# Altium footprint library MiscPower.PcbLib: 174 footprints (part 10 of 12)
Each footprint in its own frame and in the unit in brackets; x right, y up, seen from the top. Pads: shape width x height; smd on the part's side, far side on the other; paste and mask are expansions set on the pad; w line width, h text height; cw(c..) or ccw(c..) is an arc to the next point about the centre after c.
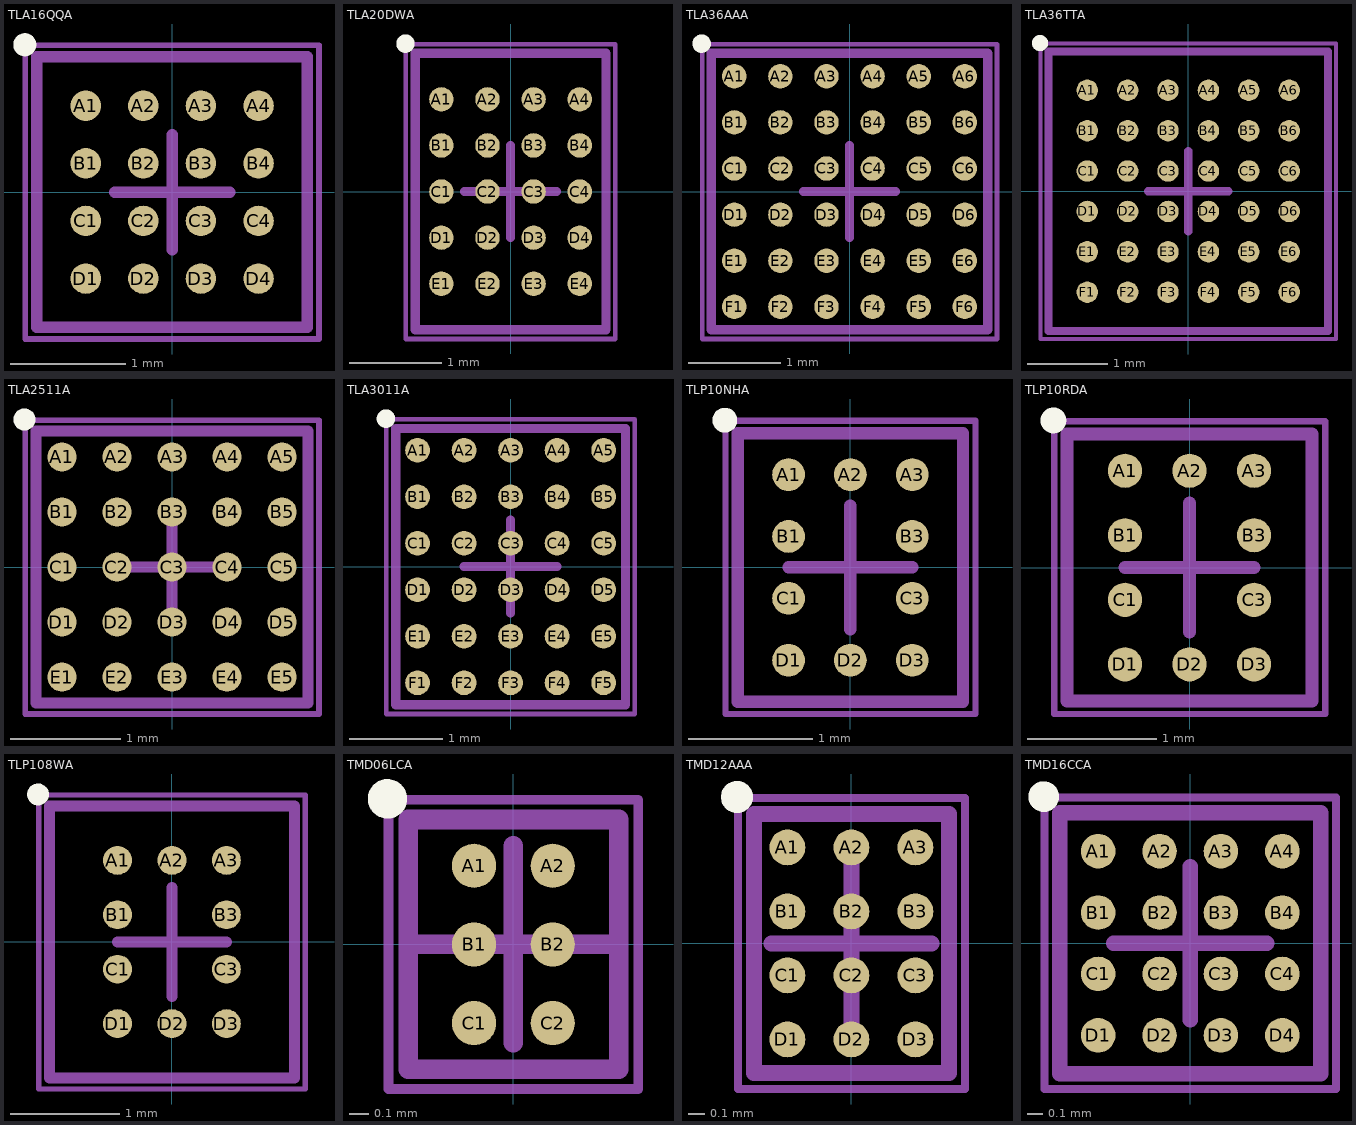
[diagram p9: the footprints below, top view; thin cyan lines are the x and y axes]

## TLA16QQA [mm] "Micro SMD, 16-Leads, Body 2.35x2.35mm, Pitch 0.5mm, NSC Recommended"
height 0.68
pads (16):
  round 0.265 smd paste-0.132 mask+0.05: A1(-0.75,0.75) A2(-0.25,0.75) A3(0.25,0.75) A4(0.75,0.75) B1(-0.75,0.25) B2(-0.25,0.25) B3(0.25,0.25) B4(0.75,0.25) C1(-0.75,-0.25) C2(-0.25,-0.25) C3(0.25,-0.25) C4(0.75,-0.25) D1(-0.75,-0.75) D2(-0.25,-0.75) D3(0.25,-0.75) D4(0.75,-0.75)
Top Overlay:
  circle w0.1: c-1.28,1.28 r0.05
Top Paste:
  circle w0.05: c-0.825,0.675 r0.025
  circle w0.05: c-0.675,0.825 r0.025
  circle w0.05: c-0.675,0.675 r0.025
  circle w0.05: c-0.825,0.825 r0.025
  circle w0.05: c-0.325,0.675 r0.025
  circle w0.05: c-0.175,0.825 r0.025
  circle w0.05: c-0.175,0.675 r0.025
  circle w0.05: c-0.325,0.825 r0.025
  circle w0.05: c0.175,0.675 r0.025
  circle w0.05: c0.325,0.825 r0.025
  circle w0.05: c0.325,0.675 r0.025
  circle w0.05: c0.175,0.825 r0.025
  circle w0.05: c0.675,0.675 r0.025
  circle w0.05: c0.825,0.825 r0.025
  circle w0.05: c0.825,0.675 r0.025
  circle w0.05: c0.675,0.825 r0.025
  circle w0.05: c-0.825,0.175 r0.025
  circle w0.05: c-0.675,0.325 r0.025
  circle w0.05: c-0.675,0.175 r0.025
  circle w0.05: c-0.825,0.325 r0.025
  circle w0.05: c-0.325,0.175 r0.025
  circle w0.05: c-0.175,0.325 r0.025
  circle w0.05: c-0.175,0.175 r0.025
  circle w0.05: c-0.325,0.325 r0.025
  circle w0.05: c0.175,0.175 r0.025
  circle w0.05: c0.325,0.325 r0.025
  circle w0.05: c0.325,0.175 r0.025
  circle w0.05: c0.175,0.325 r0.025
  circle w0.05: c0.675,0.175 r0.025
  circle w0.05: c0.825,0.325 r0.025
  circle w0.05: c0.825,0.175 r0.025
  circle w0.05: c0.675,0.325 r0.025
  circle w0.05: c-0.825,-0.325 r0.025
  circle w0.05: c-0.675,-0.175 r0.025
  circle w0.05: c-0.675,-0.325 r0.025
  circle w0.05: c-0.825,-0.175 r0.025
  circle w0.05: c-0.325,-0.325 r0.025
  circle w0.05: c-0.175,-0.175 r0.025
  circle w0.05: c-0.175,-0.325 r0.025
  circle w0.05: c-0.325,-0.175 r0.025
  circle w0.05: c0.175,-0.325 r0.025
  circle w0.05: c0.325,-0.175 r0.025
  circle w0.05: c0.325,-0.325 r0.025
  circle w0.05: c0.175,-0.175 r0.025
  circle w0.05: c0.675,-0.325 r0.025
  circle w0.05: c0.825,-0.175 r0.025
  circle w0.05: c0.825,-0.325 r0.025
  circle w0.05: c0.675,-0.175 r0.025
  circle w0.05: c-0.825,-0.825 r0.025
  circle w0.05: c-0.675,-0.675 r0.025
  circle w0.05: c-0.675,-0.825 r0.025
  circle w0.05: c-0.825,-0.675 r0.025
  circle w0.05: c-0.325,-0.825 r0.025
  circle w0.05: c-0.175,-0.675 r0.025
  circle w0.05: c-0.175,-0.825 r0.025
  circle w0.05: c-0.325,-0.675 r0.025
  circle w0.05: c0.175,-0.825 r0.025
  circle w0.05: c0.325,-0.675 r0.025
  circle w0.05: c0.325,-0.825 r0.025
  circle w0.05: c0.175,-0.675 r0.025
  circle w0.05: c0.675,-0.825 r0.025
  circle w0.05: c0.825,-0.675 r0.025
  circle w0.05: c0.825,-0.825 r0.025
  circle w0.05: c0.675,-0.675 r0.025
  region: -0.825,0.825 -0.825,0.675 -0.675,0.675 -0.675,0.825
  region: -0.825,0.675 -0.825,0.825 -0.875,0.825 -0.875,0.675
  rectangle: -0.825,0.825 -0.675,0.875
  region: -0.675,0.825 -0.675,0.675 -0.625,0.675 -0.625,0.825
  region: -0.675,0.675 -0.825,0.675 -0.825,0.625 -0.675,0.625
  region: -0.325,0.825 -0.325,0.675 -0.175,0.675 -0.175,0.825
  region: -0.325,0.675 -0.325,0.825 -0.375,0.825 -0.375,0.675
  rectangle: -0.325,0.825 -0.175,0.875
  region: -0.175,0.825 -0.175,0.675 -0.125,0.675 -0.125,0.825
  region: -0.175,0.675 -0.325,0.675 -0.325,0.625 -0.175,0.625
  region: 0.175,0.825 0.175,0.675 0.325,0.675 0.325,0.825
  region: 0.175,0.675 0.175,0.825 0.125,0.825 0.125,0.675
  rectangle: 0.175,0.825 0.325,0.875
  region: 0.325,0.825 0.325,0.675 0.375,0.675 0.375,0.825
  region: 0.325,0.675 0.175,0.675 0.175,0.625 0.325,0.625
  region: 0.675,0.825 0.675,0.675 0.825,0.675 0.825,0.825
  region: 0.675,0.675 0.675,0.825 0.625,0.825 0.625,0.675
  rectangle: 0.675,0.825 0.825,0.875
  region: 0.825,0.825 0.825,0.675 0.875,0.675 0.875,0.825
  region: 0.825,0.675 0.675,0.675 0.675,0.625 0.825,0.625
  region: -0.825,0.325 -0.825,0.175 -0.675,0.175 -0.675,0.325
  region: -0.825,0.175 -0.825,0.325 -0.875,0.325 -0.875,0.175
  rectangle: -0.825,0.325 -0.675,0.375
  region: -0.675,0.325 -0.675,0.175 -0.625,0.175 -0.625,0.325
  region: -0.675,0.175 -0.825,0.175 -0.825,0.125 -0.675,0.125
  region: -0.325,0.325 -0.325,0.175 -0.175,0.175 -0.175,0.325
  region: -0.325,0.175 -0.325,0.325 -0.375,0.325 -0.375,0.175
  rectangle: -0.325,0.325 -0.175,0.375
  region: -0.175,0.325 -0.175,0.175 -0.125,0.175 -0.125,0.325
  region: -0.175,0.175 -0.325,0.175 -0.325,0.125 -0.175,0.125
  region: 0.175,0.325 0.175,0.175 0.325,0.175 0.325,0.325
  region: 0.175,0.175 0.175,0.325 0.125,0.325 0.125,0.175
  rectangle: 0.175,0.325 0.325,0.375
  region: 0.325,0.325 0.325,0.175 0.375,0.175 0.375,0.325
  region: 0.325,0.175 0.175,0.175 0.175,0.125 0.325,0.125
  region: 0.675,0.325 0.675,0.175 0.825,0.175 0.825,0.325
  region: 0.675,0.175 0.675,0.325 0.625,0.325 0.625,0.175
  rectangle: 0.675,0.325 0.825,0.375
  region: 0.825,0.325 0.825,0.175 0.875,0.175 0.875,0.325
  region: 0.825,0.175 0.675,0.175 0.675,0.125 0.825,0.125
  region: -0.825,-0.175 -0.825,-0.325 -0.675,-0.325 -0.675,-0.175
  region: -0.825,-0.325 -0.825,-0.175 -0.875,-0.175 -0.875,-0.325
  rectangle: -0.825,-0.175 -0.675,-0.125
  region: -0.675,-0.175 -0.675,-0.325 -0.625,-0.325 -0.625,-0.175
  region: -0.675,-0.325 -0.825,-0.325 -0.825,-0.375 -0.675,-0.375
  region: -0.325,-0.175 -0.325,-0.325 -0.175,-0.325 -0.175,-0.175
  region: -0.325,-0.325 -0.325,-0.175 -0.375,-0.175 -0.375,-0.325
  rectangle: -0.325,-0.175 -0.175,-0.125
  region: -0.175,-0.175 -0.175,-0.325 -0.125,-0.325 -0.125,-0.175
  region: -0.175,-0.325 -0.325,-0.325 -0.325,-0.375 -0.175,-0.375
  region: 0.175,-0.175 0.175,-0.325 0.325,-0.325 0.325,-0.175
  region: 0.175,-0.325 0.175,-0.175 0.125,-0.175 0.125,-0.325
  rectangle: 0.175,-0.175 0.325,-0.125
  region: 0.325,-0.175 0.325,-0.325 0.375,-0.325 0.375,-0.175
  region: 0.325,-0.325 0.175,-0.325 0.175,-0.375 0.325,-0.375
  region: 0.675,-0.175 0.675,-0.325 0.825,-0.325 0.825,-0.175
  region: 0.675,-0.325 0.675,-0.175 0.625,-0.175 0.625,-0.325
  rectangle: 0.675,-0.175 0.825,-0.125
  region: 0.825,-0.175 0.825,-0.325 0.875,-0.325 0.875,-0.175
  region: 0.825,-0.325 0.675,-0.325 0.675,-0.375 0.825,-0.375
  region: -0.825,-0.675 -0.825,-0.825 -0.675,-0.825 -0.675,-0.675
  region: -0.825,-0.825 -0.825,-0.675 -0.875,-0.675 -0.875,-0.825
  rectangle: -0.825,-0.675 -0.675,-0.625
  region: -0.675,-0.675 -0.675,-0.825 -0.625,-0.825 -0.625,-0.675
  region: -0.675,-0.825 -0.825,-0.825 -0.825,-0.875 -0.675,-0.875
  region: -0.325,-0.675 -0.325,-0.825 -0.175,-0.825 -0.175,-0.675
  region: -0.325,-0.825 -0.325,-0.675 -0.375,-0.675 -0.375,-0.825
  rectangle: -0.325,-0.675 -0.175,-0.625
  region: -0.175,-0.675 -0.175,-0.825 -0.125,-0.825 -0.125,-0.675
  region: -0.175,-0.825 -0.325,-0.825 -0.325,-0.875 -0.175,-0.875
  region: 0.175,-0.675 0.175,-0.825 0.325,-0.825 0.325,-0.675
  region: 0.175,-0.825 0.175,-0.675 0.125,-0.675 0.125,-0.825
  rectangle: 0.175,-0.675 0.325,-0.625
  region: 0.325,-0.675 0.325,-0.825 0.375,-0.825 0.375,-0.675
  region: 0.325,-0.825 0.175,-0.825 0.175,-0.875 0.325,-0.875
  region: 0.675,-0.675 0.675,-0.825 0.825,-0.825 0.825,-0.675
  region: 0.675,-0.825 0.675,-0.675 0.625,-0.675 0.625,-0.825
  rectangle: 0.675,-0.675 0.825,-0.625
  region: 0.825,-0.675 0.825,-0.825 0.875,-0.825 0.875,-0.675
  region: 0.825,-0.825 0.675,-0.825 0.675,-0.875 0.825,-0.875
Mechanical 13:
  lines w0.1: -1.175,-1.175 -1.175,1.175 1.175,1.175 1.175,-1.175 -1.175,-1.175
Mechanical 15:
  lines w0.05: -1.275,-1.275 -1.275,1.275 1.275,1.275 1.275,-1.275 -1.275,-1.275
  lines w0.1: -0.5,0 0.5,0 ; 0,-0.5 0,0.5
3D body: height 0.68, standoff 0, extent -1.175,-1.175 1.175,1.175

## TLA20DWA [mm] "Micro SMD, 20-Leads, Body 3x2.05mm, Pitch 0.5mm, NSC Recommended"
height 0.68
pads (20):
  round 0.265 smd paste-0.132 mask+0.05: A1(-0.75,1) A2(-0.25,1) A3(0.25,1) A4(0.75,1) B1(-0.75,0.5) B2(-0.25,0.5) B3(0.25,0.5) B4(0.75,0.5) C1(-0.75,0) C2(-0.25,0) C3(0.25,0) C4(0.75,0) D1(-0.75,-0.5) D2(-0.25,-0.5) D3(0.25,-0.5) D4(0.75,-0.5) E1(-0.75,-1) E2(-0.25,-1) E3(0.25,-1) E4(0.75,-1)
Top Overlay:
  circle w0.1: c-1.14,1.605 r0.05
Top Paste:
  drawing of 180 lines, arcs and shapes, not listed
Mechanical 13:
  lines w0.1: -1.035,-1.5 1.035,-1.5 1.035,1.5 -1.035,1.5 -1.035,-1.5
Mechanical 15:
  lines w0.05: -1.135,-1.6 1.135,-1.6 1.135,1.6 -1.135,1.6 -1.135,-1.6
  lines w0.1: -0.5,0 0.5,0 ; 0,-0.5 0,0.5
3D body: height 0.68, standoff 0, extent -1.035,-1.5 1.035,1.5

## TLA36AAA [mm] "Micro SMD, 36-Leads, Body 3x3mm, Pitch 0.5mm, NSC Recommended"
height 0.68
pads (36):
  round 0.265 smd paste-0.132 mask+0.05: A1(-1.25,1.25) A2(-0.75,1.25) A3(-0.25,1.25) A4(0.25,1.25) A5(0.75,1.25) A6(1.25,1.25) B1(-1.25,0.75) B2(-0.75,0.75) B3(-0.25,0.75) B4(0.25,0.75) B5(0.75,0.75) B6(1.25,0.75) C1(-1.25,0.25) C2(-0.75,0.25) C3(-0.25,0.25) C4(0.25,0.25) C5(0.75,0.25) C6(1.25,0.25) D1(-1.25,-0.25) D2(-0.75,-0.25) D3(-0.25,-0.25) D4(0.25,-0.25) D5(0.75,-0.25) D6(1.25,-0.25) E1(-1.25,-0.75) E2(-0.75,-0.75) E3(-0.25,-0.75) E4(0.25,-0.75) E5(0.75,-0.75) E6(1.25,-0.75) F1(-1.25,-1.25) F2(-0.75,-1.25) F3(-0.25,-1.25) F4(0.25,-1.25) F5(0.75,-1.25) F6(1.25,-1.25)
Top Overlay:
  circle w0.1: c-1.605,1.605 r0.05
Top Paste:
  drawing of 324 lines, arcs and shapes, not listed
Mechanical 13:
  lines w0.1: -1.5,-1.5 -1.5,1.5 1.5,1.5 1.5,-1.5 -1.5,-1.5
Mechanical 15:
  lines w0.05: -1.6,-1.6 -1.6,1.6 1.6,1.6 1.6,-1.6 -1.6,-1.6
  lines w0.1: -0.5,0 0.5,0 ; 0,-0.5 0,0.5
3D body: height 0.68, standoff 0, extent -1.5,-1.5 1.5,1.5

## TLA36TTA [mm] "Micro SMD, 36-Leads, Body 3.46x3.46mm, Pitch 0.5mm, NSC Recommended"
height 0.68
pads (36):
  round 0.265 smd paste-0.132 mask+0.05: A1(-1.25,1.25) A2(-0.75,1.25) A3(-0.25,1.25) A4(0.25,1.25) A5(0.75,1.25) A6(1.25,1.25) B1(-1.25,0.75) B2(-0.75,0.75) B3(-0.25,0.75) B4(0.25,0.75) B5(0.75,0.75) B6(1.25,0.75) C1(-1.25,0.25) C2(-0.75,0.25) C3(-0.25,0.25) C4(0.25,0.25) C5(0.75,0.25) C6(1.25,0.25) D1(-1.25,-0.25) D2(-0.75,-0.25) D3(-0.25,-0.25) D4(0.25,-0.25) D5(0.75,-0.25) D6(1.25,-0.25) E1(-1.25,-0.75) E2(-0.75,-0.75) E3(-0.25,-0.75) E4(0.25,-0.75) E5(0.75,-0.75) E6(1.25,-0.75) F1(-1.25,-1.25) F2(-0.75,-1.25) F3(-0.25,-1.25) F4(0.25,-1.25) F5(0.75,-1.25) F6(1.25,-1.25)
Top Overlay:
  circle w0.1: c-1.835,1.835 r0.05
Top Paste:
  drawing of 324 lines, arcs and shapes, not listed
Mechanical 13:
  lines w0.1: -1.73,-1.73 1.73,-1.73 1.73,1.73 -1.73,1.73 -1.73,-1.73
Mechanical 15:
  lines w0.05: -1.83,-1.83 1.83,-1.83 1.83,1.83 -1.83,1.83 -1.83,-1.83
  lines w0.1: -0.5,0 0.5,0 ; 0,-0.5 0,0.5
3D body: height 0.68, standoff 0, extent -1.73,-1.73 1.73,1.73

## TLA2511A [mm] "Micro SMD, 25-Leads, Body 2.47x2.47mm, Pitch 0.5mm, NSC Recommended"
height 0.68
pads (25):
  round 0.265 smd paste-0.132 mask+0.05: A1(-1,1) A2(-0.5,1) A3(0,1) A4(0.5,1) A5(1,1) B1(-1,0.5) B2(-0.5,0.5) B3(0,0.5) B4(0.5,0.5) B5(1,0.5) C1(-1,0) C2(-0.5,0) C3(0,0) C4(0.5,0) C5(1,0) D1(-1,-0.5) D2(-0.5,-0.5) D3(0,-0.5) D4(0.5,-0.5) D5(1,-0.5) E1(-1,-1) E2(-0.5,-1) E3(0,-1) E4(0.5,-1) E5(1,-1)
Top Overlay:
  circle w0.1: c-1.34,1.34 r0.05
Top Paste:
  drawing of 225 lines, arcs and shapes, not listed
Mechanical 13:
  lines w0.1: -1.235,-1.235 1.235,-1.235 1.235,1.235 -1.235,1.235 -1.235,-1.235
Mechanical 15:
  lines w0.05: -1.335,-1.335 1.335,-1.335 1.335,1.335 -1.335,1.335 -1.335,-1.335
  lines w0.1: -0.5,0 0.5,0 ; 0,-0.5 0,0.5
3D body: height 0.68, standoff 0, extent -1.235,-1.235 1.235,1.235

## TLA3011A [mm] "Micro SMD, 30-Leads, Body 2.97x2.47mm, Pitch 0.5mm, NSC Recommended"
height 0.68
pads (30):
  round 0.265 smd paste-0.132 mask+0.05: A1(-1,1.25) A2(-0.5,1.25) A3(0,1.25) A4(0.5,1.25) A5(1,1.25) B1(-1,0.75) B2(-0.5,0.75) B3(0,0.75) B4(0.5,0.75) B5(1,0.75) C1(-1,0.25) C2(-0.5,0.25) C3(0,0.25) C4(0.5,0.25) C5(1,0.25) D1(-1,-0.25) D2(-0.5,-0.25) D3(0,-0.25) D4(0.5,-0.25) D5(1,-0.25) E1(-1,-0.75) E2(-0.5,-0.75) E3(0,-0.75) E4(0.5,-0.75) E5(1,-0.75) F1(-1,-1.25) F2(-0.5,-1.25) F3(0,-1.25) F4(0.5,-1.25) F5(1,-1.25)
Top Overlay:
  circle w0.1: c-1.34,1.59 r0.05
Top Paste:
  drawing of 270 lines, arcs and shapes, not listed
Mechanical 13:
  lines w0.1: -1.235,-1.485 -1.235,1.485 1.235,1.485 1.235,-1.485 -1.235,-1.485
Mechanical 15:
  lines w0.05: -1.335,-1.585 -1.335,1.585 1.335,1.585 1.335,-1.585 -1.335,-1.585
  lines w0.1: -0.5,0 0.5,0 ; 0,-0.5 0,0.5
3D body: height 0.68, standoff 0, extent -1.235,-1.485 1.235,1.485

## TLP10NHA [mm] "Micro SMD, 10-Leads, Body 2.17x1.82mm, Pitch 0.5mm, NSC Recommended"
height 0.68
pads (10):
  round 0.265 smd paste-0.132 mask+0.05: A1(-0.5,0.75) A2(0,0.75) A3(0.5,0.75) B1(-0.5,0.25) B3(0.5,0.25) C1(-0.5,-0.25) C3(0.5,-0.25) D1(-0.5,-0.75) D2(0,-0.75) D3(0.5,-0.75)
Top Overlay:
  circle w0.1: c-1.015,1.19 r0.05
Top Paste:
  circle w0.05: c-0.575,0.675 r0.025
  circle w0.05: c-0.425,0.825 r0.025
  circle w0.05: c-0.425,0.675 r0.025
  circle w0.05: c-0.575,0.825 r0.025
  circle w0.05: c-0.075,0.675 r0.025
  circle w0.05: c0.075,0.825 r0.025
  circle w0.05: c0.075,0.675 r0.025
  circle w0.05: c-0.075,0.825 r0.025
  circle w0.05: c0.425,0.675 r0.025
  circle w0.05: c0.575,0.825 r0.025
  circle w0.05: c0.575,0.675 r0.025
  circle w0.05: c0.425,0.825 r0.025
  circle w0.05: c-0.575,0.175 r0.025
  circle w0.05: c-0.425,0.325 r0.025
  circle w0.05: c-0.425,0.175 r0.025
  circle w0.05: c-0.575,0.325 r0.025
  circle w0.05: c0.425,0.175 r0.025
  circle w0.05: c0.575,0.325 r0.025
  circle w0.05: c0.575,0.175 r0.025
  circle w0.05: c0.425,0.325 r0.025
  circle w0.05: c-0.575,-0.325 r0.025
  circle w0.05: c-0.425,-0.175 r0.025
  circle w0.05: c-0.425,-0.325 r0.025
  circle w0.05: c-0.575,-0.175 r0.025
  circle w0.05: c0.425,-0.325 r0.025
  circle w0.05: c0.575,-0.175 r0.025
  circle w0.05: c0.575,-0.325 r0.025
  circle w0.05: c0.425,-0.175 r0.025
  circle w0.05: c-0.575,-0.825 r0.025
  circle w0.05: c-0.425,-0.675 r0.025
  circle w0.05: c-0.425,-0.825 r0.025
  circle w0.05: c-0.575,-0.675 r0.025
  circle w0.05: c-0.075,-0.825 r0.025
  circle w0.05: c0.075,-0.675 r0.025
  circle w0.05: c0.075,-0.825 r0.025
  circle w0.05: c-0.075,-0.675 r0.025
  circle w0.05: c0.425,-0.825 r0.025
  circle w0.05: c0.575,-0.675 r0.025
  circle w0.05: c0.575,-0.825 r0.025
  circle w0.05: c0.425,-0.675 r0.025
  region: -0.575,0.825 -0.575,0.675 -0.425,0.675 -0.425,0.825
  region: -0.575,0.675 -0.575,0.825 -0.625,0.825 -0.625,0.675
  rectangle: -0.575,0.825 -0.425,0.875
  region: -0.425,0.825 -0.425,0.675 -0.375,0.675 -0.375,0.825
  region: -0.425,0.675 -0.575,0.675 -0.575,0.625 -0.425,0.625
  region: -0.075,0.825 -0.075,0.675 0.075,0.675 0.075,0.825
  region: -0.075,0.675 -0.075,0.825 -0.125,0.825 -0.125,0.675
  rectangle: -0.075,0.825 0.075,0.875
  region: 0.075,0.825 0.075,0.675 0.125,0.675 0.125,0.825
  region: 0.075,0.675 -0.075,0.675 -0.075,0.625 0.075,0.625
  region: 0.425,0.825 0.425,0.675 0.575,0.675 0.575,0.825
  region: 0.425,0.675 0.425,0.825 0.375,0.825 0.375,0.675
  rectangle: 0.425,0.825 0.575,0.875
  region: 0.575,0.825 0.575,0.675 0.625,0.675 0.625,0.825
  region: 0.575,0.675 0.425,0.675 0.425,0.625 0.575,0.625
  region: -0.575,0.325 -0.575,0.175 -0.425,0.175 -0.425,0.325
  region: -0.575,0.175 -0.575,0.325 -0.625,0.325 -0.625,0.175
  rectangle: -0.575,0.325 -0.425,0.375
  region: -0.425,0.325 -0.425,0.175 -0.375,0.175 -0.375,0.325
  region: -0.425,0.175 -0.575,0.175 -0.575,0.125 -0.425,0.125
  region: 0.425,0.325 0.425,0.175 0.575,0.175 0.575,0.325
  region: 0.425,0.175 0.425,0.325 0.375,0.325 0.375,0.175
  rectangle: 0.425,0.325 0.575,0.375
  region: 0.575,0.325 0.575,0.175 0.625,0.175 0.625,0.325
  region: 0.575,0.175 0.425,0.175 0.425,0.125 0.575,0.125
  region: -0.575,-0.175 -0.575,-0.325 -0.425,-0.325 -0.425,-0.175
  region: -0.575,-0.325 -0.575,-0.175 -0.625,-0.175 -0.625,-0.325
  rectangle: -0.575,-0.175 -0.425,-0.125
  region: -0.425,-0.175 -0.425,-0.325 -0.375,-0.325 -0.375,-0.175
  region: -0.425,-0.325 -0.575,-0.325 -0.575,-0.375 -0.425,-0.375
  region: 0.425,-0.175 0.425,-0.325 0.575,-0.325 0.575,-0.175
  region: 0.425,-0.325 0.425,-0.175 0.375,-0.175 0.375,-0.325
  rectangle: 0.425,-0.175 0.575,-0.125
  region: 0.575,-0.175 0.575,-0.325 0.625,-0.325 0.625,-0.175
  region: 0.575,-0.325 0.425,-0.325 0.425,-0.375 0.575,-0.375
  region: -0.575,-0.675 -0.575,-0.825 -0.425,-0.825 -0.425,-0.675
  region: -0.575,-0.825 -0.575,-0.675 -0.625,-0.675 -0.625,-0.825
  rectangle: -0.575,-0.675 -0.425,-0.625
  region: -0.425,-0.675 -0.425,-0.825 -0.375,-0.825 -0.375,-0.675
  region: -0.425,-0.825 -0.575,-0.825 -0.575,-0.875 -0.425,-0.875
  region: -0.075,-0.675 -0.075,-0.825 0.075,-0.825 0.075,-0.675
  region: -0.075,-0.825 -0.075,-0.675 -0.125,-0.675 -0.125,-0.825
  rectangle: -0.075,-0.675 0.075,-0.625
  region: 0.075,-0.675 0.075,-0.825 0.125,-0.825 0.125,-0.675
  region: 0.075,-0.825 -0.075,-0.825 -0.075,-0.875 0.075,-0.875
  region: 0.425,-0.675 0.425,-0.825 0.575,-0.825 0.575,-0.675
  region: 0.425,-0.825 0.425,-0.675 0.375,-0.675 0.375,-0.825
  rectangle: 0.425,-0.675 0.575,-0.625
  region: 0.575,-0.675 0.575,-0.825 0.625,-0.825 0.625,-0.675
  region: 0.575,-0.825 0.425,-0.825 0.425,-0.875 0.575,-0.875
Mechanical 13:
  lines w0.1: -0.91,-1.085 -0.91,1.085 0.91,1.085 0.91,-1.085 -0.91,-1.085
Mechanical 15:
  lines w0.05: -1.01,-1.185 -1.01,1.185 1.01,1.185 1.01,-1.185 -1.01,-1.185
  lines w0.1: -0.5,0 0.5,0 ; 0,-0.5 0,0.5
3D body: height 0.68, standoff 0, extent -0.91,-1.085 0.91,1.085

## TLP10RDA [mm] "Micro SMD, 10-Leads, Body 2.07x1.9mm, Pitch 0.5mm, NSC Recommended"
height 0.68
pads (10):
  round 0.265 smd paste-0.132 mask+0.05: A1(-0.5,0.75) A2(0,0.75) A3(0.5,0.75) B1(-0.5,0.25) B3(0.5,0.25) C1(-0.5,-0.25) C3(0.5,-0.25) D1(-0.5,-0.75) D2(0,-0.75) D3(0.5,-0.75)
Top Overlay:
  circle w0.1: c-1.055,1.14 r0.05
Top Paste:
  circle w0.05: c0.425,-0.675 r0.025
  circle w0.05: c0.575,-0.825 r0.025
  circle w0.05: c0.575,-0.675 r0.025
  circle w0.05: c0.425,-0.825 r0.025
  circle w0.05: c-0.075,-0.675 r0.025
  circle w0.05: c0.075,-0.825 r0.025
  circle w0.05: c0.075,-0.675 r0.025
  circle w0.05: c-0.075,-0.825 r0.025
  circle w0.05: c-0.575,-0.675 r0.025
  circle w0.05: c-0.425,-0.825 r0.025
  circle w0.05: c-0.425,-0.675 r0.025
  circle w0.05: c-0.575,-0.825 r0.025
  circle w0.05: c0.425,-0.175 r0.025
  circle w0.05: c0.575,-0.325 r0.025
  circle w0.05: c0.575,-0.175 r0.025
  circle w0.05: c0.425,-0.325 r0.025
  circle w0.05: c-0.575,-0.175 r0.025
  circle w0.05: c-0.425,-0.325 r0.025
  circle w0.05: c-0.425,-0.175 r0.025
  circle w0.05: c-0.575,-0.325 r0.025
  circle w0.05: c0.425,0.325 r0.025
  circle w0.05: c0.575,0.175 r0.025
  circle w0.05: c0.575,0.325 r0.025
  circle w0.05: c0.425,0.175 r0.025
  circle w0.05: c-0.575,0.325 r0.025
  circle w0.05: c-0.425,0.175 r0.025
  circle w0.05: c-0.425,0.325 r0.025
  circle w0.05: c-0.575,0.175 r0.025
  circle w0.05: c0.425,0.825 r0.025
  circle w0.05: c0.575,0.675 r0.025
  circle w0.05: c0.575,0.825 r0.025
  circle w0.05: c0.425,0.675 r0.025
  circle w0.05: c-0.075,0.825 r0.025
  circle w0.05: c0.075,0.675 r0.025
  circle w0.05: c0.075,0.825 r0.025
  circle w0.05: c-0.075,0.675 r0.025
  circle w0.05: c-0.575,0.825 r0.025
  circle w0.05: c-0.425,0.675 r0.025
  circle w0.05: c-0.425,0.825 r0.025
  circle w0.05: c-0.575,0.675 r0.025
  region: 0.575,-0.825 0.425,-0.825 0.425,-0.875 0.575,-0.875
  region: 0.575,-0.675 0.575,-0.825 0.625,-0.825 0.625,-0.675
  rectangle: 0.425,-0.675 0.575,-0.625
  region: 0.425,-0.825 0.425,-0.675 0.375,-0.675 0.375,-0.825
  region: 0.425,-0.675 0.425,-0.825 0.575,-0.825 0.575,-0.675
  region: 0.075,-0.825 -0.075,-0.825 -0.075,-0.875 0.075,-0.875
  region: 0.075,-0.675 0.075,-0.825 0.125,-0.825 0.125,-0.675
  rectangle: -0.075,-0.675 0.075,-0.625
  region: -0.075,-0.825 -0.075,-0.675 -0.125,-0.675 -0.125,-0.825
  region: -0.075,-0.675 -0.075,-0.825 0.075,-0.825 0.075,-0.675
  region: -0.425,-0.825 -0.575,-0.825 -0.575,-0.875 -0.425,-0.875
  region: -0.425,-0.675 -0.425,-0.825 -0.375,-0.825 -0.375,-0.675
  rectangle: -0.575,-0.675 -0.425,-0.625
  region: -0.575,-0.825 -0.575,-0.675 -0.625,-0.675 -0.625,-0.825
  region: -0.575,-0.675 -0.575,-0.825 -0.425,-0.825 -0.425,-0.675
  region: 0.575,-0.325 0.425,-0.325 0.425,-0.375 0.575,-0.375
  region: 0.575,-0.175 0.575,-0.325 0.625,-0.325 0.625,-0.175
  rectangle: 0.425,-0.175 0.575,-0.125
  region: 0.425,-0.325 0.425,-0.175 0.375,-0.175 0.375,-0.325
  region: 0.425,-0.175 0.425,-0.325 0.575,-0.325 0.575,-0.175
  region: -0.425,-0.325 -0.575,-0.325 -0.575,-0.375 -0.425,-0.375
  region: -0.425,-0.175 -0.425,-0.325 -0.375,-0.325 -0.375,-0.175
  rectangle: -0.575,-0.175 -0.425,-0.125
  region: -0.575,-0.325 -0.575,-0.175 -0.625,-0.175 -0.625,-0.325
  region: -0.575,-0.175 -0.575,-0.325 -0.425,-0.325 -0.425,-0.175
  region: 0.575,0.175 0.425,0.175 0.425,0.125 0.575,0.125
  region: 0.575,0.325 0.575,0.175 0.625,0.175 0.625,0.325
  rectangle: 0.425,0.325 0.575,0.375
  region: 0.425,0.175 0.425,0.325 0.375,0.325 0.375,0.175
  region: 0.425,0.325 0.425,0.175 0.575,0.175 0.575,0.325
  region: -0.425,0.175 -0.575,0.175 -0.575,0.125 -0.425,0.125
  region: -0.425,0.325 -0.425,0.175 -0.375,0.175 -0.375,0.325
  rectangle: -0.575,0.325 -0.425,0.375
  region: -0.575,0.175 -0.575,0.325 -0.625,0.325 -0.625,0.175
  region: -0.575,0.325 -0.575,0.175 -0.425,0.175 -0.425,0.325
  region: 0.575,0.675 0.425,0.675 0.425,0.625 0.575,0.625
  region: 0.575,0.825 0.575,0.675 0.625,0.675 0.625,0.825
  rectangle: 0.425,0.825 0.575,0.875
  region: 0.425,0.675 0.425,0.825 0.375,0.825 0.375,0.675
  region: 0.425,0.825 0.425,0.675 0.575,0.675 0.575,0.825
  region: 0.075,0.675 -0.075,0.675 -0.075,0.625 0.075,0.625
  region: 0.075,0.825 0.075,0.675 0.125,0.675 0.125,0.825
  rectangle: -0.075,0.825 0.075,0.875
  region: -0.075,0.675 -0.075,0.825 -0.125,0.825 -0.125,0.675
  region: -0.075,0.825 -0.075,0.675 0.075,0.675 0.075,0.825
  region: -0.425,0.675 -0.575,0.675 -0.575,0.625 -0.425,0.625
  region: -0.425,0.825 -0.425,0.675 -0.375,0.675 -0.375,0.825
  rectangle: -0.575,0.825 -0.425,0.875
  region: -0.575,0.675 -0.575,0.825 -0.625,0.825 -0.625,0.675
  region: -0.575,0.825 -0.575,0.675 -0.425,0.675 -0.425,0.825
Mechanical 13:
  lines w0.1: -0.95,-1.035 0.95,-1.035 0.95,1.035 -0.95,1.035 -0.95,-1.035
Mechanical 15:
  lines w0.05: -1.05,-1.135 1.05,-1.135 1.05,1.135 -1.05,1.135 -1.05,-1.135
  lines w0.1: -0.5,0 0.5,0 ; 0,-0.5 0,0.5
3D body: height 0.68, standoff 0, extent -0.95,-1.035 0.95,1.035

## TLP108WA [mm] "Micro SMD, 10-Leads, Body 2.5x2.25mm, Pitch 0.5mm, NSC Recommended"
height 0.68
pads (10):
  round 0.265 smd paste-0.132 mask+0.05: A1(-0.5,0.75) A2(0,0.75) A3(0.5,0.75) B1(-0.5,0.25) B3(0.5,0.25) C1(-0.5,-0.25) C3(0.5,-0.25) D1(-0.5,-0.75) D2(0,-0.75) D3(0.5,-0.75)
Top Overlay:
  circle w0.1: c-1.23,1.355 r0.05
Top Paste:
  circle w0.05: c-0.575,0.675 r0.025
  circle w0.05: c-0.425,0.825 r0.025
  circle w0.05: c-0.425,0.675 r0.025
  circle w0.05: c-0.575,0.825 r0.025
  circle w0.05: c-0.075,0.675 r0.025
  circle w0.05: c0.075,0.825 r0.025
  circle w0.05: c0.075,0.675 r0.025
  circle w0.05: c-0.075,0.825 r0.025
  circle w0.05: c0.425,0.675 r0.025
  circle w0.05: c0.575,0.825 r0.025
  circle w0.05: c0.575,0.675 r0.025
  circle w0.05: c0.425,0.825 r0.025
  circle w0.05: c-0.575,0.175 r0.025
  circle w0.05: c-0.425,0.325 r0.025
  circle w0.05: c-0.425,0.175 r0.025
  circle w0.05: c-0.575,0.325 r0.025
  circle w0.05: c0.425,0.175 r0.025
  circle w0.05: c0.575,0.325 r0.025
  circle w0.05: c0.575,0.175 r0.025
  circle w0.05: c0.425,0.325 r0.025
  circle w0.05: c-0.575,-0.325 r0.025
  circle w0.05: c-0.425,-0.175 r0.025
  circle w0.05: c-0.425,-0.325 r0.025
  circle w0.05: c-0.575,-0.175 r0.025
  circle w0.05: c0.425,-0.325 r0.025
  circle w0.05: c0.575,-0.175 r0.025
  circle w0.05: c0.575,-0.325 r0.025
  circle w0.05: c0.425,-0.175 r0.025
  circle w0.05: c-0.575,-0.825 r0.025
  circle w0.05: c-0.425,-0.675 r0.025
  circle w0.05: c-0.425,-0.825 r0.025
  circle w0.05: c-0.575,-0.675 r0.025
  circle w0.05: c-0.075,-0.825 r0.025
  circle w0.05: c0.075,-0.675 r0.025
  circle w0.05: c0.075,-0.825 r0.025
  circle w0.05: c-0.075,-0.675 r0.025
  circle w0.05: c0.425,-0.825 r0.025
  circle w0.05: c0.575,-0.675 r0.025
  circle w0.05: c0.575,-0.825 r0.025
  circle w0.05: c0.425,-0.675 r0.025
  region: -0.575,0.825 -0.575,0.675 -0.425,0.675 -0.425,0.825
  region: -0.575,0.675 -0.575,0.825 -0.625,0.825 -0.625,0.675
  rectangle: -0.575,0.825 -0.425,0.875
  region: -0.425,0.825 -0.425,0.675 -0.375,0.675 -0.375,0.825
  region: -0.425,0.675 -0.575,0.675 -0.575,0.625 -0.425,0.625
  region: -0.075,0.825 -0.075,0.675 0.075,0.675 0.075,0.825
  region: -0.075,0.675 -0.075,0.825 -0.125,0.825 -0.125,0.675
  rectangle: -0.075,0.825 0.075,0.875
  region: 0.075,0.825 0.075,0.675 0.125,0.675 0.125,0.825
  region: 0.075,0.675 -0.075,0.675 -0.075,0.625 0.075,0.625
  region: 0.425,0.825 0.425,0.675 0.575,0.675 0.575,0.825
  region: 0.425,0.675 0.425,0.825 0.375,0.825 0.375,0.675
  rectangle: 0.425,0.825 0.575,0.875
  region: 0.575,0.825 0.575,0.675 0.625,0.675 0.625,0.825
  region: 0.575,0.675 0.425,0.675 0.425,0.625 0.575,0.625
  region: -0.575,0.325 -0.575,0.175 -0.425,0.175 -0.425,0.325
  region: -0.575,0.175 -0.575,0.325 -0.625,0.325 -0.625,0.175
  rectangle: -0.575,0.325 -0.425,0.375
  region: -0.425,0.325 -0.425,0.175 -0.375,0.175 -0.375,0.325
  region: -0.425,0.175 -0.575,0.175 -0.575,0.125 -0.425,0.125
  region: 0.425,0.325 0.425,0.175 0.575,0.175 0.575,0.325
  region: 0.425,0.175 0.425,0.325 0.375,0.325 0.375,0.175
  rectangle: 0.425,0.325 0.575,0.375
  region: 0.575,0.325 0.575,0.175 0.625,0.175 0.625,0.325
  region: 0.575,0.175 0.425,0.175 0.425,0.125 0.575,0.125
  region: -0.575,-0.175 -0.575,-0.325 -0.425,-0.325 -0.425,-0.175
  region: -0.575,-0.325 -0.575,-0.175 -0.625,-0.175 -0.625,-0.325
  rectangle: -0.575,-0.175 -0.425,-0.125
  region: -0.425,-0.175 -0.425,-0.325 -0.375,-0.325 -0.375,-0.175
  region: -0.425,-0.325 -0.575,-0.325 -0.575,-0.375 -0.425,-0.375
  region: 0.425,-0.175 0.425,-0.325 0.575,-0.325 0.575,-0.175
  region: 0.425,-0.325 0.425,-0.175 0.375,-0.175 0.375,-0.325
  rectangle: 0.425,-0.175 0.575,-0.125
  region: 0.575,-0.175 0.575,-0.325 0.625,-0.325 0.625,-0.175
  region: 0.575,-0.325 0.425,-0.325 0.425,-0.375 0.575,-0.375
  region: -0.575,-0.675 -0.575,-0.825 -0.425,-0.825 -0.425,-0.675
  region: -0.575,-0.825 -0.575,-0.675 -0.625,-0.675 -0.625,-0.825
  rectangle: -0.575,-0.675 -0.425,-0.625
  region: -0.425,-0.675 -0.425,-0.825 -0.375,-0.825 -0.375,-0.675
  region: -0.425,-0.825 -0.575,-0.825 -0.575,-0.875 -0.425,-0.875
  region: -0.075,-0.675 -0.075,-0.825 0.075,-0.825 0.075,-0.675
  region: -0.075,-0.825 -0.075,-0.675 -0.125,-0.675 -0.125,-0.825
  rectangle: -0.075,-0.675 0.075,-0.625
  region: 0.075,-0.675 0.075,-0.825 0.125,-0.825 0.125,-0.675
  region: 0.075,-0.825 -0.075,-0.825 -0.075,-0.875 0.075,-0.875
  region: 0.425,-0.675 0.425,-0.825 0.575,-0.825 0.575,-0.675
  region: 0.425,-0.825 0.425,-0.675 0.375,-0.675 0.375,-0.825
  rectangle: 0.425,-0.675 0.575,-0.625
  region: 0.575,-0.675 0.575,-0.825 0.625,-0.825 0.625,-0.675
  region: 0.575,-0.825 0.425,-0.825 0.425,-0.875 0.575,-0.875
Mechanical 13:
  lines w0.1: -1.125,-1.25 -1.125,1.25 1.125,1.25 1.125,-1.25 -1.125,-1.25
Mechanical 15:
  lines w0.05: -1.225,-1.35 -1.225,1.35 1.225,1.35 1.225,-1.35 -1.225,-1.35
  lines w0.1: -0.5,0 0.5,0 ; 0,-0.5 0,0.5
3D body: height 0.68, standoff 0, extent -1.125,-1.25 1.125,1.25

## TMD06LCA [mm] "Micro SMD, 6-Leads, Body 1.27x1.07mm, Pitch 0.4mm, NSC Recommended"
height 0.68
pads (6):
  round 0.225 smd paste-0.112 mask+0.05: A1(-0.2,0.4) A2(0.2,0.4) B1(-0.2,0) B2(0.2,0) C1(-0.2,-0.4) C2(0.2,-0.4)
Top Overlay:
  circle w0.1: c-0.64,0.74 r0.05
Top Paste:
  circle w0.05: c-0.125,0.475 r0.025
  circle w0.05: c-0.275,0.325 r0.025
  circle w0.05: c-0.275,0.475 r0.025
  circle w0.05: c-0.125,0.325 r0.025
  circle w0.05: c0.275,0.475 r0.025
  circle w0.05: c0.125,0.325 r0.025
  circle w0.05: c0.125,0.475 r0.025
  circle w0.05: c0.275,0.325 r0.025
  circle w0.05: c-0.125,0.075 r0.025
  circle w0.05: c-0.275,-0.075 r0.025
  circle w0.05: c-0.275,0.075 r0.025
  circle w0.05: c-0.125,-0.075 r0.025
  circle w0.05: c0.275,0.075 r0.025
  circle w0.05: c0.125,-0.075 r0.025
  circle w0.05: c0.125,0.075 r0.025
  circle w0.05: c0.275,-0.075 r0.025
  circle w0.05: c-0.125,-0.325 r0.025
  circle w0.05: c-0.275,-0.475 r0.025
  circle w0.05: c-0.275,-0.325 r0.025
  circle w0.05: c-0.125,-0.475 r0.025
  circle w0.05: c0.275,-0.325 r0.025
  circle w0.05: c0.125,-0.475 r0.025
  circle w0.05: c0.125,-0.325 r0.025
  circle w0.05: c0.275,-0.475 r0.025
  rectangle: -0.275,0.275 -0.125,0.325
  region: -0.325,0.475 -0.325,0.325 -0.275,0.325 -0.275,0.475
  region: -0.125,0.525 -0.275,0.525 -0.275,0.475 -0.125,0.475
  region: -0.075,0.325 -0.075,0.475 -0.125,0.475 -0.125,0.325
  region: -0.275,0.475 -0.275,0.325 -0.125,0.325 -0.125,0.475
  rectangle: 0.125,0.275 0.275,0.325
  region: 0.075,0.475 0.075,0.325 0.125,0.325 0.125,0.475
  region: 0.275,0.525 0.125,0.525 0.125,0.475 0.275,0.475
  region: 0.325,0.325 0.325,0.475 0.275,0.475 0.275,0.325
  region: 0.125,0.475 0.125,0.325 0.275,0.325 0.275,0.475
  rectangle: -0.275,-0.125 -0.125,-0.075
  region: -0.325,0.075 -0.325,-0.075 -0.275,-0.075 -0.275,0.075
  region: -0.125,0.125 -0.275,0.125 -0.275,0.075 -0.125,0.075
  region: -0.075,-0.075 -0.075,0.075 -0.125,0.075 -0.125,-0.075
  region: -0.275,0.075 -0.275,-0.075 -0.125,-0.075 -0.125,0.075
  rectangle: 0.125,-0.125 0.275,-0.075
  region: 0.075,0.075 0.075,-0.075 0.125,-0.075 0.125,0.075
  region: 0.275,0.125 0.125,0.125 0.125,0.075 0.275,0.075
  region: 0.325,-0.075 0.325,0.075 0.275,0.075 0.275,-0.075
  region: 0.125,0.075 0.125,-0.075 0.275,-0.075 0.275,0.075
  rectangle: -0.275,-0.525 -0.125,-0.475
  region: -0.325,-0.325 -0.325,-0.475 -0.275,-0.475 -0.275,-0.325
  region: -0.125,-0.275 -0.275,-0.275 -0.275,-0.325 -0.125,-0.325
  region: -0.075,-0.475 -0.075,-0.325 -0.125,-0.325 -0.125,-0.475
  region: -0.275,-0.325 -0.275,-0.475 -0.125,-0.475 -0.125,-0.325
  rectangle: 0.125,-0.525 0.275,-0.475
  region: 0.075,-0.325 0.075,-0.475 0.125,-0.475 0.125,-0.325
  region: 0.275,-0.275 0.125,-0.275 0.125,-0.325 0.275,-0.325
  region: 0.325,-0.475 0.325,-0.325 0.275,-0.325 0.275,-0.475
  region: 0.125,-0.325 0.125,-0.475 0.275,-0.475 0.275,-0.325
Mechanical 13:
  lines w0.1: -0.535,-0.635 -0.535,0.635 0.535,0.635 0.535,-0.635 -0.535,-0.635
Mechanical 15:
  lines w0.05: -0.635,-0.735 -0.635,0.735 0.635,0.735 0.635,-0.735 -0.635,-0.735
  lines w0.1: -0.5,0 0.5,0 ; 0,-0.5 0,0.5
3D body: height 0.68, standoff 0, extent -0.535,-0.635 0.535,0.635

## TMD12AAA [mm] "Micro SMD, 12-Leads, Body 1.62x1.22mm, Pitch 0.4mm, NSC Recommended"
height 0.68
pads (12):
  round 0.225 smd paste-0.112 mask+0.05: A1(-0.4,0.6) A2(0,0.6) A3(0.4,0.6) B1(-0.4,0.2) B2(0,0.2) B3(0.4,0.2) C1(-0.4,-0.2) C2(0,-0.2) C3(0.4,-0.2) D1(-0.4,-0.6) D2(0,-0.6) D3(0.4,-0.6)
Top Overlay:
  circle w0.1: c-0.715,0.915 r0.05
Top Paste:
  circle w0.05: c0.475,-0.675 r0.025
  circle w0.05: c0.325,-0.525 r0.025
  circle w0.05: c0.325,-0.675 r0.025
  circle w0.05: c0.475,-0.525 r0.025
  circle w0.05: c0.075,-0.675 r0.025
  circle w0.05: c-0.075,-0.525 r0.025
  circle w0.05: c-0.075,-0.675 r0.025
  circle w0.05: c0.075,-0.525 r0.025
  circle w0.05: c-0.325,-0.675 r0.025
  circle w0.05: c-0.475,-0.525 r0.025
  circle w0.05: c-0.475,-0.675 r0.025
  circle w0.05: c-0.325,-0.525 r0.025
  circle w0.05: c0.475,-0.275 r0.025
  circle w0.05: c0.325,-0.125 r0.025
  circle w0.05: c0.325,-0.275 r0.025
  circle w0.05: c0.475,-0.125 r0.025
  circle w0.05: c0.075,-0.275 r0.025
  circle w0.05: c-0.075,-0.125 r0.025
  circle w0.05: c-0.075,-0.275 r0.025
  circle w0.05: c0.075,-0.125 r0.025
  circle w0.05: c-0.325,-0.275 r0.025
  circle w0.05: c-0.475,-0.125 r0.025
  circle w0.05: c-0.475,-0.275 r0.025
  circle w0.05: c-0.325,-0.125 r0.025
  circle w0.05: c0.475,0.125 r0.025
  circle w0.05: c0.325,0.275 r0.025
  circle w0.05: c0.325,0.125 r0.025
  circle w0.05: c0.475,0.275 r0.025
  circle w0.05: c0.075,0.125 r0.025
  circle w0.05: c-0.075,0.275 r0.025
  circle w0.05: c-0.075,0.125 r0.025
  circle w0.05: c0.075,0.275 r0.025
  circle w0.05: c-0.325,0.125 r0.025
  circle w0.05: c-0.475,0.275 r0.025
  circle w0.05: c-0.475,0.125 r0.025
  circle w0.05: c-0.325,0.275 r0.025
  circle w0.05: c0.475,0.525 r0.025
  circle w0.05: c0.325,0.675 r0.025
  circle w0.05: c0.325,0.525 r0.025
  circle w0.05: c0.475,0.675 r0.025
  circle w0.05: c0.075,0.525 r0.025
  circle w0.05: c-0.075,0.675 r0.025
  circle w0.05: c-0.075,0.525 r0.025
  circle w0.05: c0.075,0.675 r0.025
  circle w0.05: c-0.325,0.525 r0.025
  circle w0.05: c-0.475,0.675 r0.025
  circle w0.05: c-0.475,0.525 r0.025
  circle w0.05: c-0.325,0.675 r0.025
  region: 0.325,-0.525 0.325,-0.675 0.475,-0.675 0.475,-0.525
  region: 0.525,-0.675 0.525,-0.525 0.475,-0.525 0.475,-0.675
  region: 0.475,-0.475 0.325,-0.475 0.325,-0.525 0.475,-0.525
  region: 0.275,-0.525 0.275,-0.675 0.325,-0.675 0.325,-0.525
  rectangle: 0.325,-0.725 0.475,-0.675
  region: -0.075,-0.525 -0.075,-0.675 0.075,-0.675 0.075,-0.525
  region: 0.125,-0.675 0.125,-0.525 0.075,-0.525 0.075,-0.675
  region: 0.075,-0.475 -0.075,-0.475 -0.075,-0.525 0.075,-0.525
  region: -0.125,-0.525 -0.125,-0.675 -0.075,-0.675 -0.075,-0.525
  rectangle: -0.075,-0.725 0.075,-0.675
  region: -0.475,-0.525 -0.475,-0.675 -0.325,-0.675 -0.325,-0.525
  region: -0.275,-0.675 -0.275,-0.525 -0.325,-0.525 -0.325,-0.675
  region: -0.325,-0.475 -0.475,-0.475 -0.475,-0.525 -0.325,-0.525
  region: -0.525,-0.525 -0.525,-0.675 -0.475,-0.675 -0.475,-0.525
  rectangle: -0.475,-0.725 -0.325,-0.675
  region: 0.325,-0.125 0.325,-0.275 0.475,-0.275 0.475,-0.125
  region: 0.525,-0.275 0.525,-0.125 0.475,-0.125 0.475,-0.275
  region: 0.475,-0.075 0.325,-0.075 0.325,-0.125 0.475,-0.125
  region: 0.275,-0.125 0.275,-0.275 0.325,-0.275 0.325,-0.125
  rectangle: 0.325,-0.325 0.475,-0.275
  region: -0.075,-0.125 -0.075,-0.275 0.075,-0.275 0.075,-0.125
  region: 0.125,-0.275 0.125,-0.125 0.075,-0.125 0.075,-0.275
  region: 0.075,-0.075 -0.075,-0.075 -0.075,-0.125 0.075,-0.125
  region: -0.125,-0.125 -0.125,-0.275 -0.075,-0.275 -0.075,-0.125
  rectangle: -0.075,-0.325 0.075,-0.275
  region: -0.475,-0.125 -0.475,-0.275 -0.325,-0.275 -0.325,-0.125
  region: -0.275,-0.275 -0.275,-0.125 -0.325,-0.125 -0.325,-0.275
  region: -0.325,-0.075 -0.475,-0.075 -0.475,-0.125 -0.325,-0.125
  region: -0.525,-0.125 -0.525,-0.275 -0.475,-0.275 -0.475,-0.125
  rectangle: -0.475,-0.325 -0.325,-0.275
  region: 0.325,0.275 0.325,0.125 0.475,0.125 0.475,0.275
  region: 0.525,0.125 0.525,0.275 0.475,0.275 0.475,0.125
  region: 0.475,0.325 0.325,0.325 0.325,0.275 0.475,0.275
  region: 0.275,0.275 0.275,0.125 0.325,0.125 0.325,0.275
  rectangle: 0.325,0.075 0.475,0.125
  region: -0.075,0.275 -0.075,0.125 0.075,0.125 0.075,0.275
  region: 0.125,0.125 0.125,0.275 0.075,0.275 0.075,0.125
  region: 0.075,0.325 -0.075,0.325 -0.075,0.275 0.075,0.275
  region: -0.125,0.275 -0.125,0.125 -0.075,0.125 -0.075,0.275
  rectangle: -0.075,0.075 0.075,0.125
  region: -0.475,0.275 -0.475,0.125 -0.325,0.125 -0.325,0.275
  region: -0.275,0.125 -0.275,0.275 -0.325,0.275 -0.325,0.125
  region: -0.325,0.325 -0.475,0.325 -0.475,0.275 -0.325,0.275
  region: -0.525,0.275 -0.525,0.125 -0.475,0.125 -0.475,0.275
  rectangle: -0.475,0.075 -0.325,0.125
  region: 0.325,0.675 0.325,0.525 0.475,0.525 0.475,0.675
  region: 0.525,0.525 0.525,0.675 0.475,0.675 0.475,0.525
  region: 0.475,0.725 0.325,0.725 0.325,0.675 0.475,0.675
  region: 0.275,0.675 0.275,0.525 0.325,0.525 0.325,0.675
  rectangle: 0.325,0.475 0.475,0.525
  region: -0.075,0.675 -0.075,0.525 0.075,0.525 0.075,0.675
  region: 0.125,0.525 0.125,0.675 0.075,0.675 0.075,0.525
  region: 0.075,0.725 -0.075,0.725 -0.075,0.675 0.075,0.675
  region: -0.125,0.675 -0.125,0.525 -0.075,0.525 -0.075,0.675
  rectangle: -0.075,0.475 0.075,0.525
  region: -0.475,0.675 -0.475,0.525 -0.325,0.525 -0.325,0.675
  region: -0.275,0.525 -0.275,0.675 -0.325,0.675 -0.325,0.525
  region: -0.325,0.725 -0.475,0.725 -0.475,0.675 -0.325,0.675
  region: -0.525,0.675 -0.525,0.525 -0.475,0.525 -0.475,0.675
  rectangle: -0.475,0.475 -0.325,0.525
Mechanical 13:
  lines w0.1: -0.61,-0.81 0.61,-0.81 0.61,0.81 -0.61,0.81 -0.61,-0.81
Mechanical 15:
  lines w0.05: -0.71,-0.91 0.71,-0.91 0.71,0.91 -0.71,0.91 -0.71,-0.91
  lines w0.1: -0.5,0 0.5,0 ; 0,-0.5 0,0.5
3D body: height 0.68, standoff 0, extent -0.61,-0.81 0.61,0.81

## TMD16CCA [mm] "Micro SMD, 16-Leads, Body 1.7x1.7mm, Pitch 0.4mm, NSC Recommended"
height 0.68
pads (16):
  round 0.225 smd paste-0.112 mask+0.05: A1(-0.6,0.6) A2(-0.2,0.6) A3(0.2,0.6) A4(0.6,0.6) B1(-0.6,0.2) B2(-0.2,0.2) B3(0.2,0.2) B4(0.6,0.2) C1(-0.6,-0.2) C2(-0.2,-0.2) C3(0.2,-0.2) C4(0.6,-0.2) D1(-0.6,-0.6) D2(-0.2,-0.6) D3(0.2,-0.6) D4(0.6,-0.6)
Top Overlay:
  circle w0.1: c-0.955,0.955 r0.05
Top Paste:
  circle w0.05: c-0.525,0.675 r0.025
  circle w0.05: c-0.675,0.525 r0.025
  circle w0.05: c-0.675,0.675 r0.025
  circle w0.05: c-0.525,0.525 r0.025
  circle w0.05: c-0.125,0.675 r0.025
  circle w0.05: c-0.275,0.525 r0.025
  circle w0.05: c-0.275,0.675 r0.025
  circle w0.05: c-0.125,0.525 r0.025
  circle w0.05: c0.275,0.675 r0.025
  circle w0.05: c0.125,0.525 r0.025
  circle w0.05: c0.125,0.675 r0.025
  circle w0.05: c0.275,0.525 r0.025
  circle w0.05: c0.675,0.675 r0.025
  circle w0.05: c0.525,0.525 r0.025
  circle w0.05: c0.525,0.675 r0.025
  circle w0.05: c0.675,0.525 r0.025
  circle w0.05: c-0.525,0.275 r0.025
  circle w0.05: c-0.675,0.125 r0.025
  circle w0.05: c-0.675,0.275 r0.025
  circle w0.05: c-0.525,0.125 r0.025
  circle w0.05: c-0.125,0.275 r0.025
  circle w0.05: c-0.275,0.125 r0.025
  circle w0.05: c-0.275,0.275 r0.025
  circle w0.05: c-0.125,0.125 r0.025
  circle w0.05: c0.275,0.275 r0.025
  circle w0.05: c0.125,0.125 r0.025
  circle w0.05: c0.125,0.275 r0.025
  circle w0.05: c0.275,0.125 r0.025
  circle w0.05: c0.675,0.275 r0.025
  circle w0.05: c0.525,0.125 r0.025
  circle w0.05: c0.525,0.275 r0.025
  circle w0.05: c0.675,0.125 r0.025
  circle w0.05: c-0.525,-0.125 r0.025
  circle w0.05: c-0.675,-0.275 r0.025
  circle w0.05: c-0.675,-0.125 r0.025
  circle w0.05: c-0.525,-0.275 r0.025
  circle w0.05: c-0.125,-0.125 r0.025
  circle w0.05: c-0.275,-0.275 r0.025
  circle w0.05: c-0.275,-0.125 r0.025
  circle w0.05: c-0.125,-0.275 r0.025
  circle w0.05: c0.275,-0.125 r0.025
  circle w0.05: c0.125,-0.275 r0.025
  circle w0.05: c0.125,-0.125 r0.025
  circle w0.05: c0.275,-0.275 r0.025
  circle w0.05: c0.675,-0.125 r0.025
  circle w0.05: c0.525,-0.275 r0.025
  circle w0.05: c0.525,-0.125 r0.025
  circle w0.05: c0.675,-0.275 r0.025
  circle w0.05: c-0.525,-0.525 r0.025
  circle w0.05: c-0.675,-0.675 r0.025
  circle w0.05: c-0.675,-0.525 r0.025
  circle w0.05: c-0.525,-0.675 r0.025
  circle w0.05: c-0.125,-0.525 r0.025
  circle w0.05: c-0.275,-0.675 r0.025
  circle w0.05: c-0.275,-0.525 r0.025
  circle w0.05: c-0.125,-0.675 r0.025
  circle w0.05: c0.275,-0.525 r0.025
  circle w0.05: c0.125,-0.675 r0.025
  circle w0.05: c0.125,-0.525 r0.025
  circle w0.05: c0.275,-0.675 r0.025
  circle w0.05: c0.675,-0.525 r0.025
  circle w0.05: c0.525,-0.675 r0.025
  circle w0.05: c0.525,-0.525 r0.025
  circle w0.05: c0.675,-0.675 r0.025
  rectangle: -0.675,0.475 -0.525,0.525
  region: -0.725,0.675 -0.725,0.525 -0.675,0.525 -0.675,0.675
  region: -0.525,0.725 -0.675,0.725 -0.675,0.675 -0.525,0.675
  region: -0.475,0.525 -0.475,0.675 -0.525,0.675 -0.525,0.525
  region: -0.675,0.675 -0.675,0.525 -0.525,0.525 -0.525,0.675
  rectangle: -0.275,0.475 -0.125,0.525
  region: -0.325,0.675 -0.325,0.525 -0.275,0.525 -0.275,0.675
  region: -0.125,0.725 -0.275,0.725 -0.275,0.675 -0.125,0.675
  region: -0.075,0.525 -0.075,0.675 -0.125,0.675 -0.125,0.525
  region: -0.275,0.675 -0.275,0.525 -0.125,0.525 -0.125,0.675
  rectangle: 0.125,0.475 0.275,0.525
  region: 0.075,0.675 0.075,0.525 0.125,0.525 0.125,0.675
  region: 0.275,0.725 0.125,0.725 0.125,0.675 0.275,0.675
  region: 0.325,0.525 0.325,0.675 0.275,0.675 0.275,0.525
  region: 0.125,0.675 0.125,0.525 0.275,0.525 0.275,0.675
  rectangle: 0.525,0.475 0.675,0.525
  region: 0.475,0.675 0.475,0.525 0.525,0.525 0.525,0.675
  region: 0.675,0.725 0.525,0.725 0.525,0.675 0.675,0.675
  region: 0.725,0.525 0.725,0.675 0.675,0.675 0.675,0.525
  region: 0.525,0.675 0.525,0.525 0.675,0.525 0.675,0.675
  rectangle: -0.675,0.075 -0.525,0.125
  region: -0.725,0.275 -0.725,0.125 -0.675,0.125 -0.675,0.275
  region: -0.525,0.325 -0.675,0.325 -0.675,0.275 -0.525,0.275
  region: -0.475,0.125 -0.475,0.275 -0.525,0.275 -0.525,0.125
  region: -0.675,0.275 -0.675,0.125 -0.525,0.125 -0.525,0.275
  rectangle: -0.275,0.075 -0.125,0.125
  region: -0.325,0.275 -0.325,0.125 -0.275,0.125 -0.275,0.275
  region: -0.125,0.325 -0.275,0.325 -0.275,0.275 -0.125,0.275
  region: -0.075,0.125 -0.075,0.275 -0.125,0.275 -0.125,0.125
  region: -0.275,0.275 -0.275,0.125 -0.125,0.125 -0.125,0.275
  rectangle: 0.125,0.075 0.275,0.125
  region: 0.075,0.275 0.075,0.125 0.125,0.125 0.125,0.275
  region: 0.275,0.325 0.125,0.325 0.125,0.275 0.275,0.275
  region: 0.325,0.125 0.325,0.275 0.275,0.275 0.275,0.125
  region: 0.125,0.275 0.125,0.125 0.275,0.125 0.275,0.275
  rectangle: 0.525,0.075 0.675,0.125
  region: 0.475,0.275 0.475,0.125 0.525,0.125 0.525,0.275
  region: 0.675,0.325 0.525,0.325 0.525,0.275 0.675,0.275
  region: 0.725,0.125 0.725,0.275 0.675,0.275 0.675,0.125
  region: 0.525,0.275 0.525,0.125 0.675,0.125 0.675,0.275
  rectangle: -0.675,-0.325 -0.525,-0.275
  region: -0.725,-0.125 -0.725,-0.275 -0.675,-0.275 -0.675,-0.125
  region: -0.525,-0.075 -0.675,-0.075 -0.675,-0.125 -0.525,-0.125
  region: -0.475,-0.275 -0.475,-0.125 -0.525,-0.125 -0.525,-0.275
  region: -0.675,-0.125 -0.675,-0.275 -0.525,-0.275 -0.525,-0.125
  rectangle: -0.275,-0.325 -0.125,-0.275
  region: -0.325,-0.125 -0.325,-0.275 -0.275,-0.275 -0.275,-0.125
  region: -0.125,-0.075 -0.275,-0.075 -0.275,-0.125 -0.125,-0.125
  region: -0.075,-0.275 -0.075,-0.125 -0.125,-0.125 -0.125,-0.275
  region: -0.275,-0.125 -0.275,-0.275 -0.125,-0.275 -0.125,-0.125
  rectangle: 0.125,-0.325 0.275,-0.275
  region: 0.075,-0.125 0.075,-0.275 0.125,-0.275 0.125,-0.125
  region: 0.275,-0.075 0.125,-0.075 0.125,-0.125 0.275,-0.125
  region: 0.325,-0.275 0.325,-0.125 0.275,-0.125 0.275,-0.275
  region: 0.125,-0.125 0.125,-0.275 0.275,-0.275 0.275,-0.125
  rectangle: 0.525,-0.325 0.675,-0.275
  region: 0.475,-0.125 0.475,-0.275 0.525,-0.275 0.525,-0.125
  region: 0.675,-0.075 0.525,-0.075 0.525,-0.125 0.675,-0.125
  region: 0.725,-0.275 0.725,-0.125 0.675,-0.125 0.675,-0.275
  region: 0.525,-0.125 0.525,-0.275 0.675,-0.275 0.675,-0.125
  rectangle: -0.675,-0.725 -0.525,-0.675
  region: -0.725,-0.525 -0.725,-0.675 -0.675,-0.675 -0.675,-0.525
  region: -0.525,-0.475 -0.675,-0.475 -0.675,-0.525 -0.525,-0.525
  region: -0.475,-0.675 -0.475,-0.525 -0.525,-0.525 -0.525,-0.675
  region: -0.675,-0.525 -0.675,-0.675 -0.525,-0.675 -0.525,-0.525
  rectangle: -0.275,-0.725 -0.125,-0.675
  region: -0.325,-0.525 -0.325,-0.675 -0.275,-0.675 -0.275,-0.525
  region: -0.125,-0.475 -0.275,-0.475 -0.275,-0.525 -0.125,-0.525
  region: -0.075,-0.675 -0.075,-0.525 -0.125,-0.525 -0.125,-0.675
  region: -0.275,-0.525 -0.275,-0.675 -0.125,-0.675 -0.125,-0.525
  rectangle: 0.125,-0.725 0.275,-0.675
  region: 0.075,-0.525 0.075,-0.675 0.125,-0.675 0.125,-0.525
  region: 0.275,-0.475 0.125,-0.475 0.125,-0.525 0.275,-0.525
  region: 0.325,-0.675 0.325,-0.525 0.275,-0.525 0.275,-0.675
  region: 0.125,-0.525 0.125,-0.675 0.275,-0.675 0.275,-0.525
  rectangle: 0.525,-0.725 0.675,-0.675
  region: 0.475,-0.525 0.475,-0.675 0.525,-0.675 0.525,-0.525
  region: 0.675,-0.475 0.525,-0.475 0.525,-0.525 0.675,-0.525
  region: 0.725,-0.675 0.725,-0.525 0.675,-0.525 0.675,-0.675
  region: 0.525,-0.525 0.525,-0.675 0.675,-0.675 0.675,-0.525
Mechanical 13:
  lines w0.1: -0.85,-0.85 -0.85,0.85 0.85,0.85 0.85,-0.85 -0.85,-0.85
Mechanical 15:
  lines w0.05: -0.95,-0.95 -0.95,0.95 0.95,0.95 0.95,-0.95 -0.95,-0.95
  lines w0.1: -0.5,0 0.5,0 ; 0,-0.5 0,0.5
3D body: height 0.68, standoff 0, extent -0.85,-0.85 0.85,0.85